# Altium footprint library PcbLib1.PcbLib: 44 footprints (part 2 of 3)
Each footprint in its own frame and in the unit in brackets; x right, y up, seen from the top. Pads: shape width x height; smd on the part's side, far side on the other; paste and mask are expansions set on the pad; w line width, h text height; cw(c..) or ccw(c..) is an arc to the next point about the centre after c.
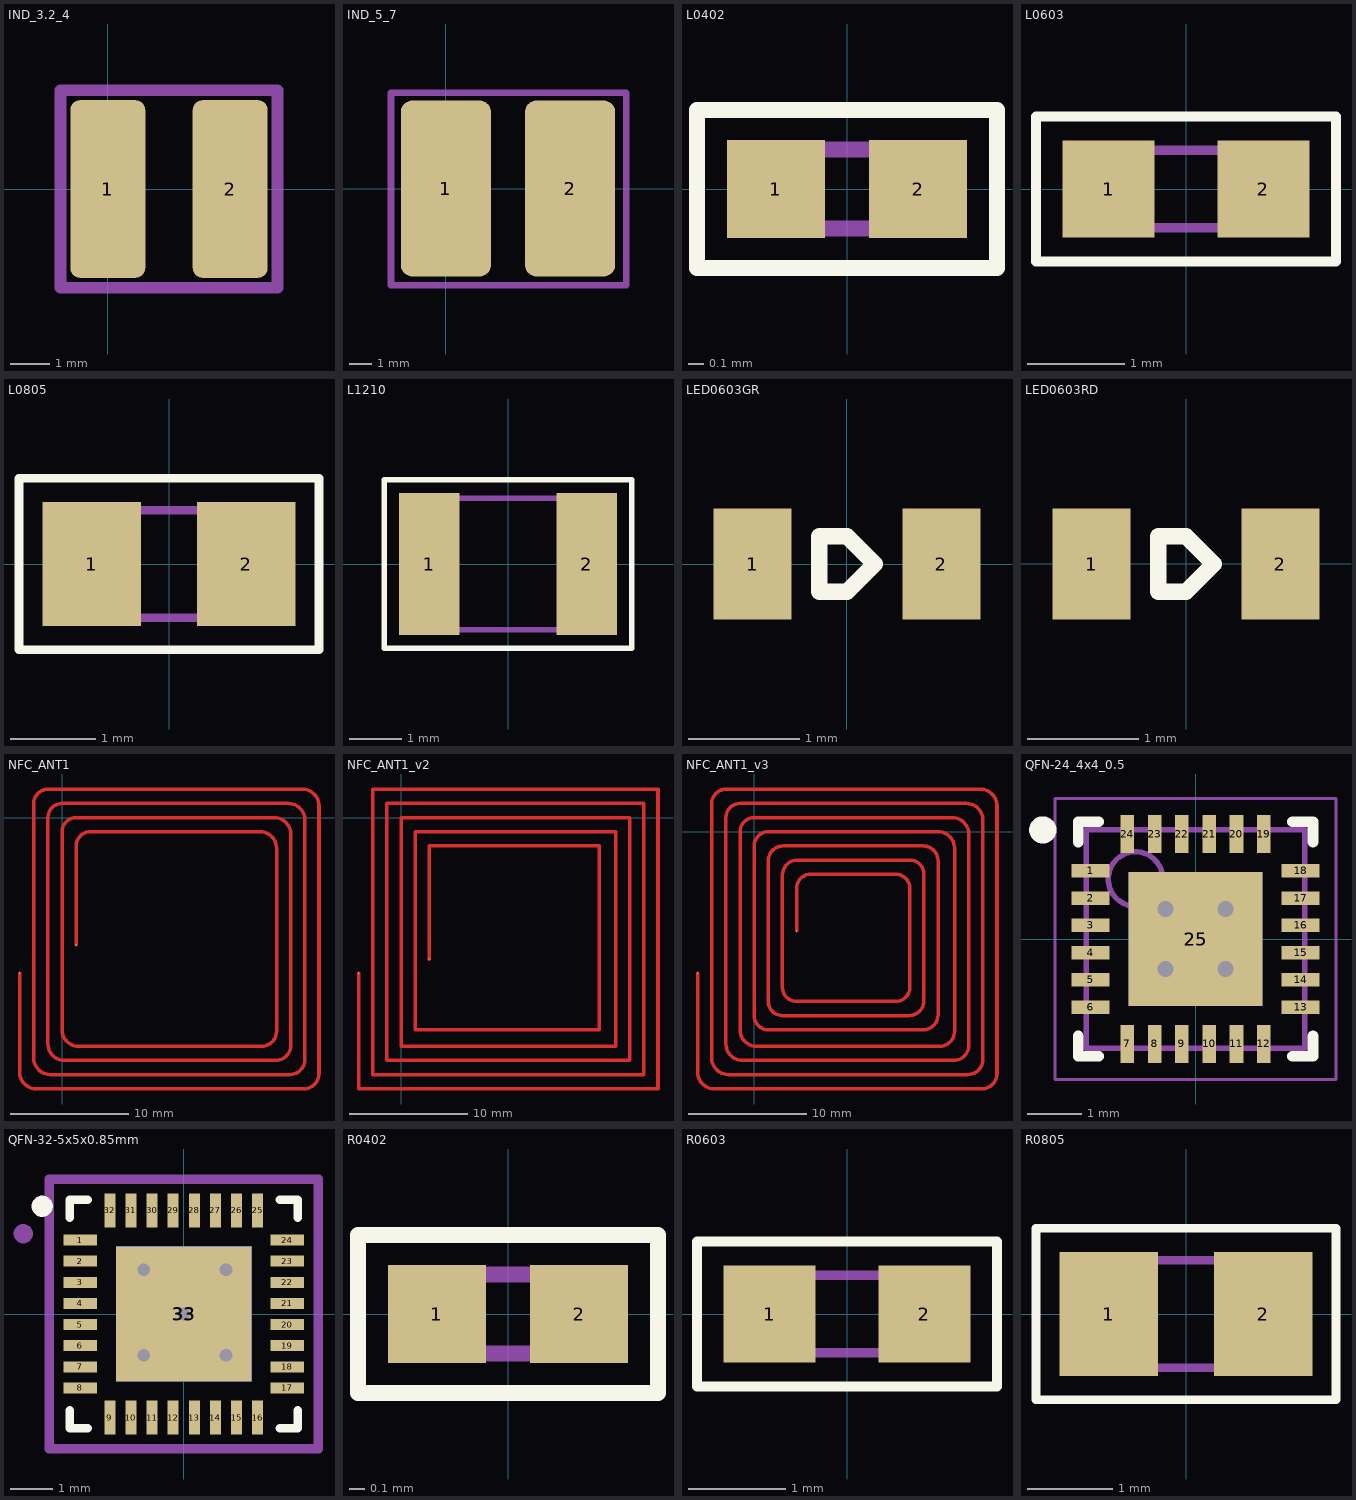
[diagram p1: the footprints below, top view; thin cyan lines are the x and y axes]

## IND_3.2_4 [mm]
pads (2):
  rrect25% 1.9x4.5 smd: 1(0,0) 2(3.1,0)
Mechanical 15:
  lines w0.3: -1.2,-2.5 -1.2,2.5 4.3,2.5 4.3,-2.5 -1.2,-2.5
3D body "CD43.stp": height 3.3, standoff 0, extent -0.724,-2.05 3.824,2.05

## IND_5_7 [mm]
pads (2):
  rrect25% 4x7.8 smd: 1(0,0) 2(5.5,0)
Mechanical 15:
  lines w0.3: -2.438,-4.291 -2.438,4.25 7.997,4.25 7.997,-4.291 -2.438,-4.291
3D body "Inductor SMD 7850.stp": height 5.01, standoff 0.06, extent -0.994,-3.431 6.632,3.569

## L0402 [mm] "Chip Inductor; Body 1 x 0.5 mm (LxW typ)"
height 0.4
pads (2):
  rect 0.62x0.62 smd mask+0.05: 1(-0.45,0) 2(0.45,0)
Top Overlay:
  lines w0.1: -0.95,-0.5 0.95,-0.5 0.95,0.5 -0.95,0.5 -0.95,-0.5
Mechanical 15:
  lines w0.1: -0.5,-0.25 0.5,-0.25 0.5,0.25 -0.5,0.25 -0.5,-0.25
3D body "User Library-Chip Inductor_0402.step": height 0.5, standoff 0, extent -0.5,-0.3 0.5,0.3

## L0603 [mm] "Chip Inductor; Body 1.6 x 0.8 mm (LxW typ)"
height 0.87
pads (2):
  rect 0.95x1 smd mask+0.05: 1(-0.8,0) 2(0.8,0)
Top Overlay:
  lines w0.1: -1.55,-0.75 1.55,-0.75 1.55,0.75 -1.55,0.75 -1.55,-0.75
Mechanical 15:
  lines w0.1: -0.8,-0.4 -0.8,0.4 0.8,0.4 0.8,-0.4 -0.8,-0.4
3D body "User Library-Chip Inductor_0603.step": height 0.8, standoff 0, extent -0.8,-0.475 0.8,0.475

## L0805 [mm] "Chip Inductor; Body 2.0 x 1.2 mm (LxW typ)"
height 1.3
pads (2):
  rect 1.15x1.45 smd mask+0.05: 1(-0.9,0) 2(0.9,0)
Top Overlay:
  lines w0.1: -1.75,-1 1.75,-1 1.75,1 -1.75,1 -1.75,-1
Mechanical 15:
  lines w0.1: -1,-0.625 -1,0.625 1,0.625 1,-0.625 -1,-0.625
3D body "User Library-Chip Inductor_0805.step": height 1.2, standoff 0, extent -1,-0.65 1,0.65

## L1210 [mm] "Chip Inductor, Body 3.2x2.5mm, IPC Medium Density"
height 1.5
pads (2):
  rect 1.15x2.7 smd: 1(-1.5,0) 2(1.5,0)
Top Overlay:
  lines w0.1: -2.35,-1.6 -2.35,1.6 2.35,1.6 2.35,-1.6 -2.35,-1.6
Mechanical 15:
  lines w0.1: -1.6,-1.25 1.6,-1.25 1.6,1.25 -1.6,1.25 -1.6,-1.25
3D body "User Library-LQH32CN.step": height 2, standoff 0, extent -1.601,-1.355 1.601,1.355

## LED0603GR [mm] "Chip Capacitor; Body 1.6 x 0.8 mm (LxW typ)"
height 0.87
pads (2):
  rect 0.7x1 smd: 1(-0.85,0) 2(0.85,0)
Top Overlay:
  lines w0.15: -0.25,-0.25 0,-0.25 0.25,0 0,0.25 -0.25,0.25 -0.25,-0.25
3D body "led0603_GRE.step": height 1.1, standoff 0, extent -0.81,-0.4 0.81,0.4

## LED0603RD [mm] "Chip Capacitor; Body 1.6 x 0.8 mm (LxW typ)"
height 0.87
pads (2):
  rect 0.7x1 smd: 1(-0.85,0) 2(0.85,0)
Top Overlay:
  lines w0.15: -0.25,-0.25 0,-0.25 0.25,0 0,0.25 -0.25,0.25 -0.25,-0.25
3D body "led0603_RED.step": height 1.1, standoff 0, extent -0.81,-0.4 0.81,0.4

## NFC_ANT1 [mm] "1"
pads (2):
  rect 0.1x0.1 smd mask+0: 1(-3.6,-13.2) 2(1.2,-10.8)
Top Layer:
  lines w0.3: -3.6,-13.2 -3.6,-21.6 ccw(c-2.2,-21.6) -2.2,-23 20.2,-23 20.53,-23 ccw(c20.53,-21.73) 21.8,-21.73 21.8,-21.4 21.8,1 ccw(c20.4,1) 20.4,2.4 -1.2,2.4 ccw(c-1.2,1.2) -2.4,1.2 -2.4,-20.4 ccw(c-1,-20.4) -1,-21.8 19,-21.8 19.33,-21.8 ccw(c19.33,-20.53) 20.6,-20.53 20.6,-20.2 20.6,-0.2 ccw(c19.2,-0.2) 19.2,1.2 0,1.2 ccw(c0,0) -1.2,0 -1.2,-19.2 ccw(c0.2,-19.2) 0.2,-20.6 17.8,-20.6 18.13,-20.6 ccw(c18.13,-19.33) 19.4,-19.33 19.4,-19 19.4,-1.4 ccw(c18,-1.4) 18,0 1.2,0 ccw(c1.2,-1.2) 0,-1.2 0,-18 ccw(c1.4,-18) 1.4,-19.4 16.6,-19.4 16.93,-19.4 ccw(c16.93,-18.13) 18.2,-18.13 18.2,-17.8 18.2,-2.6 ccw(c16.8,-2.6) 16.8,-1.2 2.4,-1.2 ccw(c2.4,-2.4) 1.2,-2.4 1.2,-10.8

## NFC_ANT1_v2 [mm] "1"
pads (2):
  rect 0.1x0.1 smd mask+0: 1(-3.6,-13.2) 2(2.4,-12)
Top Layer:
  lines w0.3: -3.6,-13.2 -3.6,-21.6 -3.6,-23 -2.2,-23 20.2,-23 20.53,-23 21.8,-23 21.8,-21.73 21.8,-21.4 21.8,1 21.8,2.4 20.4,2.4 -1.2,2.4 -2.4,2.4 -2.4,1.2 -2.4,-20.4 -2.4,-21.8 -1,-21.8 19,-21.8 19.33,-21.8 20.6,-21.8 20.6,-20.365 ; 2.4,-12 2.4,-3.67 2.4,-2.4 3.6,-2.4 ; 3.67,-2.4 15.53,-2.4 16.8,-2.4 16.8,-3.67 16.8,-16.8 16.8,-18 15.6,-18 2.4,-18 1.2,-18 1.2,-16.8 1.2,-2.4 1.2,-1.2 2.4,-1.2 16.8,-1.2 18.2,-1.2 18.2,-2.6 18.2,-17.8 18.2,-18.13 ; 17.965,-20.6 19.4,-20.6 19.4,-19.165 ; 18.13,-20.6 17.8,-20.6 0.2,-20.6 -0.868,-20.6 ; 18.2,-17.965 18.2,-19.4 16.93,-19.4 16.6,-19.4 1.4,-19.4 0,-19.4 0,-18 0,-1.2 0,0 1.2,0 18,0 19.4,0 19.4,-1.4 19.4,-19 19.4,-19.33 ; 20.6,-20.53 20.6,-20.2 20.6,-0.2 20.6,1.2 19.2,1.2 0,1.2 -1.2,1.2 -1.2,0 -1.2,-19.2 -1.2,-20.599 -0.869,-20.599 ; -0.869,-20.599 -0.868,-20.6

## NFC_ANT1_v3 [mm] "1"
pads (2):
  rect 0.1x0.1 smd mask+0: 1(-4.8,-12) 2(3.6,-8.4)
Top Layer:
  lines w0.3: -4.8,-12 -4.8,-20.4 ccw(c-3.4,-20.4) -3.4,-21.8 19,-21.8 19.33,-21.8 ccw(c19.33,-20.53) 20.6,-20.53 20.6,-20.2 20.6,2.2 ccw(c19.2,2.2) 19.2,3.6 -2.4,3.6 ccw(c-2.4,2.4) -3.6,2.4 -3.6,-19.2 ccw(c-2.2,-19.2) -2.2,-20.6 17.8,-20.6 18.13,-20.6 ccw(c18.13,-19.33) 19.4,-19.33 19.4,-19 19.4,1 ccw(c18,1) 18,2.4 -1.2,2.4 ccw(c-1.2,1.2) -2.4,1.2 -2.4,-18 ccw(c-1,-18) -1,-19.4 16.6,-19.4 16.93,-19.4 ccw(c16.93,-18.13) 18.2,-18.13 18.2,-17.8 18.2,-0.2 ccw(c16.8,-0.2) 16.8,1.2 0,1.2 ccw(c0,0) -1.2,0 -1.2,-16.8 ccw(c0.2,-16.8) 0.2,-18.2 15.4,-18.2 15.73,-18.2 ccw(c15.73,-16.93) 17,-16.93 17,-16.6 17,-1.4 ccw(c15.6,-1.4) 15.6,0 1.2,0 ccw(c1.2,-1.2) 0,-1.2 0,-9.6 0,-15.6 ccw(c1.2,-15.6) 1.2,-16.8 14.33,-16.8 ccw(c14.33,-15.53) 15.6,-15.53 15.6,-2.47 ccw(c14.33,-2.47) 14.33,-1.2 2.47,-1.2 ccw(c2.47,-2.47) 1.2,-2.47 1.2,-14.4 ccw(c2.4,-14.4) 2.4,-15.6 13.13,-15.6 ccw(c13.13,-14.33) 14.4,-14.33 14.4,-3.6 ccw(c13.2,-3.6) 13.2,-2.4 3.67,-2.4 ccw(c3.67,-3.67) 2.4,-3.67 2.4,-13.2 ccw(c3.6,-13.2) 3.6,-14.4 12,-14.4 ccw(c12,-13.2) 13.2,-13.2 13.2,-4.8 ccw(c12,-4.8) 12,-3.6 4.8,-3.6 ccw(c4.8,-4.8) 3.6,-4.8 3.6,-8.4

## QFN-24_4x4_0.5 [mm] "QFN, 24-Leads, Body 4,00x4,00mm, Pitch 0,50mm, Thermal Pad 2,45x2,45mm, IPC Medium Density"
height 0.8
pads (26):
  rect 0.7x0.25 smd: 1(-1.925,1.25) 2(-1.925,0.75) 3(-1.925,0.25) 4(-1.925,-0.25) 5(-1.925,-0.75) 6(-1.925,-1.25) 13(1.925,-1.25) 14(1.925,-0.75) 15(1.925,-0.25) 16(1.925,0.25) 17(1.925,0.75) 18(1.925,1.25)
  rect 0.25x0.7 smd: 7(-1.25,-1.925) 8(-0.75,-1.925) 9(-0.25,-1.925) 10(0.25,-1.925) 11(0.75,-1.925) 12(1.25,-1.925) 19(1.25,1.925) 20(0.75,1.925) 21(0.25,1.925) 22(-0.25,1.925) 23(-0.75,1.925) 24(-1.25,1.925)
  rect 2.45x2.45 smd: 25(0,0)
  rect 2.45x2.45 smd far side: 25(0,0)
via -0.55,0.55 diameter 0.6 hole 0.3
via 0.55,0.55 diameter 0.6 hole 0.3
via -0.55,-0.55 diameter 0.6 hole 0.3
via 0.55,-0.55 diameter 0.6 hole 0.3
Top Overlay:
  circle w0.25: c-2.8,2 r0.125
  lines w0.2: -2.15,-1.775 -2.15,-2.15 -1.775,-2.15 ; -2.15,1.775 -2.15,2.15 -1.775,2.15 ; 1.775,-2.15 2.15,-2.15 2.15,-1.775 ; 1.775,2.15 2.15,2.15 2.15,1.775
Mechanical 13:
  circle w0.1: c-1.1,1.1 r0.5
  lines w0.1: -2,-2 -2,2 2,2 2,-2 -2,-2
Mechanical 15:
  lines w0.05: -2.575,-2.575 -2.575,2.575 2.575,2.575 2.575,-2.575 -2.575,-2.575
  lines w0.1: -0.5,0 0.5,0 ; 0,-0.5 0,0.5
3D body "QFN-24_4x4_0.5.step": height 0.8, standoff 0, extent -2.05,-2.05 2.05,2.05

## QFN-32-5x5x0.85mm [mm]
height 1
pads (34):
  rect 0.8x0.26 smd: 1(-2.45,1.75) 2(-2.45,1.25) 3(-2.45,0.75) 4(-2.45,0.25) 5(-2.45,-0.25) 6(-2.45,-0.75) 7(-2.45,-1.25) 8(-2.45,-1.75) 17(2.45,-1.75) 18(2.45,-1.25) 19(2.45,-0.75) 20(2.45,-0.25) 21(2.45,0.25) 22(2.45,0.75) 23(2.45,1.25) 24(2.45,1.75)
  rect 0.26x0.8 smd: 9(-1.75,-2.45) 10(-1.25,-2.45) 11(-0.75,-2.45) 12(-0.25,-2.45) 13(0.25,-2.45) 14(0.75,-2.45) 15(1.25,-2.45) 16(1.75,-2.45) 25(1.75,2.45) 26(1.25,2.45) 27(0.75,2.45) 28(0.25,2.45) 29(-0.25,2.45) 30(-0.75,2.45) 31(-1.25,2.45) 32(-1.75,2.45)
  rect 3.2x3.2 smd: 33(0,0)
  rect 3.2x3.2 smd far side: 33(0.012,0.006)
via 0,0 diameter 0.6 hole 0.3
via 1,-0.975 diameter 0.6 hole 0.3
via 1,1.05 diameter 0.6 hole 0.3
via -0.95,1.05 diameter 0.6 hole 0.3
via -0.95,-0.975 diameter 0.6 hole 0.3
Top Overlay:
  circle w0.25: c-3.35,2.55 r0.125
  lines w0.2: -2.7,-2.275 -2.7,-2.7 -2.275,-2.7 ; -2.7,2.275 -2.7,2.7 -2.275,2.7 ; 2.275,-2.7 2.7,-2.7 2.7,-2.275 ; 2.275,2.7 2.7,2.7 2.7,2.275
Mechanical 13:
  circle w0.254: c-3.8,1.9 r0.1
  lines w0.2: -3.2,-3.2 3.2,-3.2 3.2,3.2 -3.2,3.2 -3.2,-3.2
  text "'.Designator'" at -5.665,-0.417 h1
Mechanical 15:
  lines w0.05: -3.1,-3.1 3.1,-3.1 3.1,3.1 -3.1,3.1 -3.1,-3.1
  lines w0.1: -0.5,0 0.5,0 ; 0,-0.5 0,0.5
3D body: height 0.25, standoff 0, extent -2.551,-2.551 2.551,2.551

## R0402 [mm] "Chip Resistor; Body 1 x 0.5 mm (LxW typ)"
height 0.4
pads (2):
  rect 0.62x0.62 smd mask+0.05: 1(-0.45,0) 2(0.45,0)
Top Overlay:
  lines w0.1: -0.95,-0.5 0.95,-0.5 0.95,0.5 -0.95,0.5 -0.95,-0.5
Mechanical 15:
  lines w0.1: -0.5,-0.25 0.5,-0.25 0.5,0.25 -0.5,0.25 -0.5,-0.25
3D body "R0402.step": height 0.38, standoff 0, extent -0.5,-0.25 0.5,0.25

## R0603 [mm] "Chip Resistor; Body 1.6 x 0.8 mm (LxW typ)"
height 0.87
pads (2):
  rect 0.95x1 smd mask+0.05: 1(-0.8,0) 2(0.8,0)
Top Overlay:
  lines w0.1: -1.55,-0.75 1.55,-0.75 1.55,0.75 -1.55,0.75 -1.55,-0.75
Mechanical 15:
  lines w0.1: -0.8,-0.4 -0.8,0.4 0.8,0.4 0.8,-0.4 -0.8,-0.4
3D body "R0603.step": height 0.79, standoff 0, extent -1,-0.394 1,0.394

## R0805 [mm] "Chip Resistor; Body 2.0 x 1.2 mm (LxW typ)"
height 1.3
pads (2):
  rect 1.15x1.45 smd mask+0.05: 1(-0.9,0) 2(0.9,0)
Top Overlay:
  lines w0.1: -1.75,-1 1.75,-1 1.75,1 -1.75,1 -1.75,-1
Mechanical 15:
  lines w0.1: -1,-0.625 -1,0.625 1,0.625 1,-0.625 -1,-0.625
3D body "R0805.step": height 0.78, standoff 0, extent -1,-0.625 1,0.625